# EAGLE library part RT6150 (library pimoroni-ics)
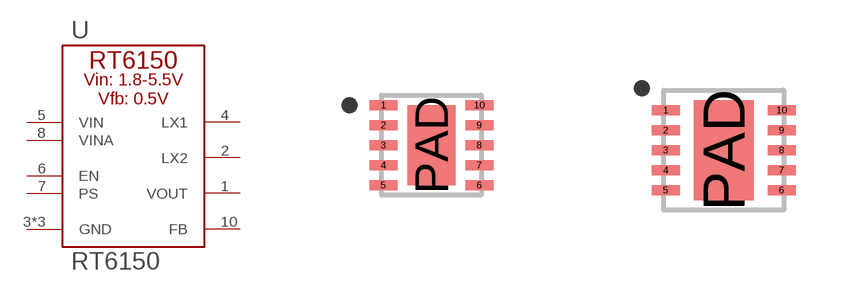
[diagram p147: symbol with the pads of WDFN-10L-2.5X2.5; footprints WDFN-10L-2.5X2.5, WDFN-10L-3X3]

Designator prefix U

## RT6150_BGQW/_B-33GQW  [WDFN-10L-2.5X2.5]
1  VOUT
2  LX2
3  GND
4  LX1
5  VIN
6  EN
7  PS
8  VINA
9  GND
10  FB
PAD  GND

## RT6150AGQW  [WDFN-10L-3X3]
Pads as for WDFN-10L-2.5X2.5

## Footprint WDFN-10L-2.5X2.5 (pad centres in mm)
smd 0.7 x 0.25: 1 -1.2,1; 2 -1.2,0.5; 3 -1.2,0; 4 -1.2,-0.5; 5 -1.2,-1; 6 1.2,-1; 7 1.2,-0.5; 8 1.2,0; 9 1.2,0.5; 10 1.2,1
smd 1.2 x 2: PAD 0,0

## Footprint WDFN-10L-3X3 (pad centres in mm)
smd 0.7 x 0.25: 1 -1.45,1; 2 -1.45,0.5; 3 -1.45,0; 4 -1.45,-0.5; 5 -1.45,-1; 6 1.45,-1; 7 1.45,-0.5; 8 1.45,0; 9 1.45,0.5; 10 1.45,1
smd 1.5 x 2.5: PAD 0,0